# Altium schematic symbol library UAF42.SchLib: 1 symbol
Pins are listed as number, name and electrical type; pins without a type are passive.

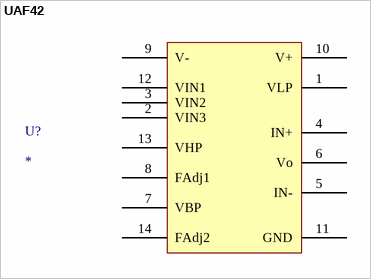
[diagram p0: symbol UAF42]

## UAF42
designator U?
pins: 1 VLP, 2 VIN3, 3 VIN2, 4 IN+, 5 IN-, 6 Vo, 7 VBP, 8 FAdj1, 9 V-, 10 V+, 11 GND, 12 VIN1, 13 VHP, 14 FAdj2